# Altium integrated library 1053091202.Library.IntLib: 1 symbol
Pins are listed as number, name and electrical type; pins without a type are passive.

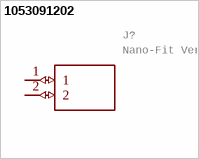
[diagram p0: symbol 1053091202]

## 1053091202
designator J?, comment Nano-Fit Vertical Header, Through Hole, 2.50mm Pitch, Single Row, with Kinked Pins, Tin (Sn) Plating, Black, Glow-Wire Capable, Tray   Source:  Datasheet
Manufacturer_Name: Molex; GateName_1: G$1; SymbolName_1: 1053091202; LibraryName: 1053091202; DeviceSetName: 1053091202; Package: 1053091102; Manufacturer_Part_Number: 1053091202; Arrow_Part_Number: 1053091202; Arrow_Price-Stock: https://www.arrow.com/en/products/1053091202/molex; Description: Nano-Fit Vertical Header, Through Hole, 2.50mm Pitch, Single Row, with Kinked Pins, Tin (Sn) Plating, Black, Glow-Wire Capable, Tray; Height: 10.51mm
footprint 1053091102
pins: 1 (io), 2 (io)